# EAGLE library part BQ51013B (library ben_oxley)
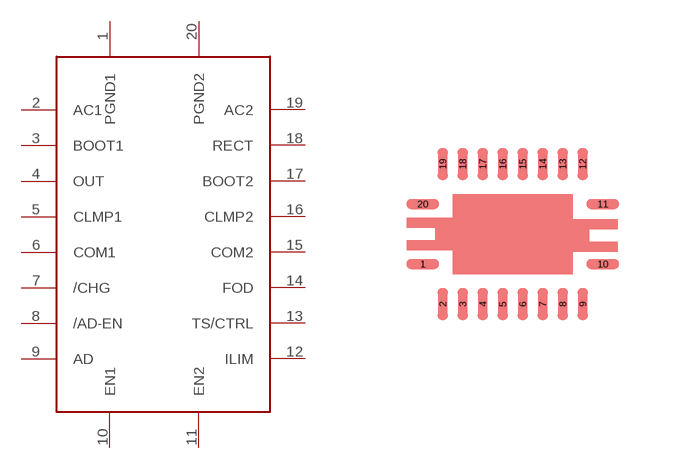
[diagram p0: symbol with the pads of QFNRHL20; footprint QFNRHL20]

Designator prefix -

## BQ51013B  [QFNRHL20]
1  PGND1  pwr
2  AC1
3  BOOT1
4  OUT
5  CLMP1
6  COM1
7  /CHG
8  /AD-EN
9  AD
10  EN1
11  EN2
12  ILIM
13  TS/CTRL
14  FOD
15  COM2
16  CLMP2
17  BOOT2
18  RECT
19  AC2
20  PGND2  pwr

## Footprint QFNRHL20 (pad centres in mm)
smd 0.8 x 0.25: 1 -2.25,-0.75; 10 2.25,-0.75; 11 2.25,0.75; 20 -2.25,0.75
smd 0.25 x 0.8: 2 -1.75,-1.75; 3 -1.25,-1.75; 4 -0.75,-1.75; 5 -0.25,-1.75; 6 0.25,-1.75; 7 0.75,-1.75; 8 1.25,-1.75; 9 1.75,-1.75; 12 1.75,1.75; 13 1.25,1.75; 14 0.75,1.75; 15 0.25,1.75; 16 -0.25,1.75; 17 -0.75,1.75; 18 -1.25,1.75; 19 -1.75,1.75